# EAGLE library part 2SMPP-03 (library 2SMPP-03)
OMRON ELECTRONIC COMPONENTS - 2SMPP-03 - SENSOR, PRESSURE, -50 TO 50KPA, 1, 2.6MM Source: Datasheet <http://omronfs.omron.com/en_US/ecb/products/pdf/en-2smpp-03.pdf>
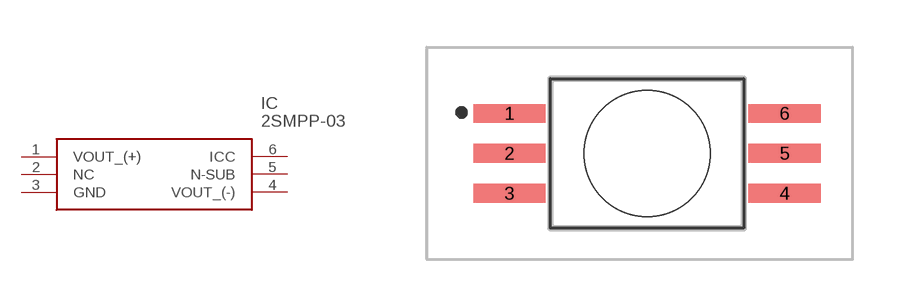
[diagram p0: symbol with the pads of 2SMPP03; footprint 2SMPP03]

Designator prefix IC

## 2SMPP-03 (Arrow_Part_Number: 2SMPP-03; Arrow_Price-Stock: https://www.arrow.com/en/products/2smpp-03/omron; Description: OMRON ELECTRONIC COMPONENTS - 2SMPP-03 - SENSOR, PRESSURE, -50 TO 50KPA, 1, 2.6MM; Height: 3mm; Manufacturer_Name: Omron Electronics; Manufacturer_Part_Number: 2SMPP-03; Mouser_Part_Number: 653-2SMPP-03; Mouser_Price-Stock: https://www.mouser.co.uk/ProductDetail/Omron-Electronics/2SMPP-03?qs=4pif%2FGVLGwewIGFtpGK49A%3D%3D)  [2SMPP03]
1  VOUT_(+)
2  NC  nc
3  GND
4  VOUT_(-)
5  N-SUB
6  ICC

## Footprint 2SMPP03 (pad centres in mm)
2SMPP-03
smd 2.3 x 0.6: 1 -4.375,1.27; 2 -4.375,0; 3 -4.375,-1.27; 4 4.375,-1.27; 5 4.375,0; 6 4.375,1.27
hole 4 at 0,0